# Altium schematic symbol library Diode.SchLib: 43 symbols
Pins are listed as number, name and electrical type; pins without a type are passive.

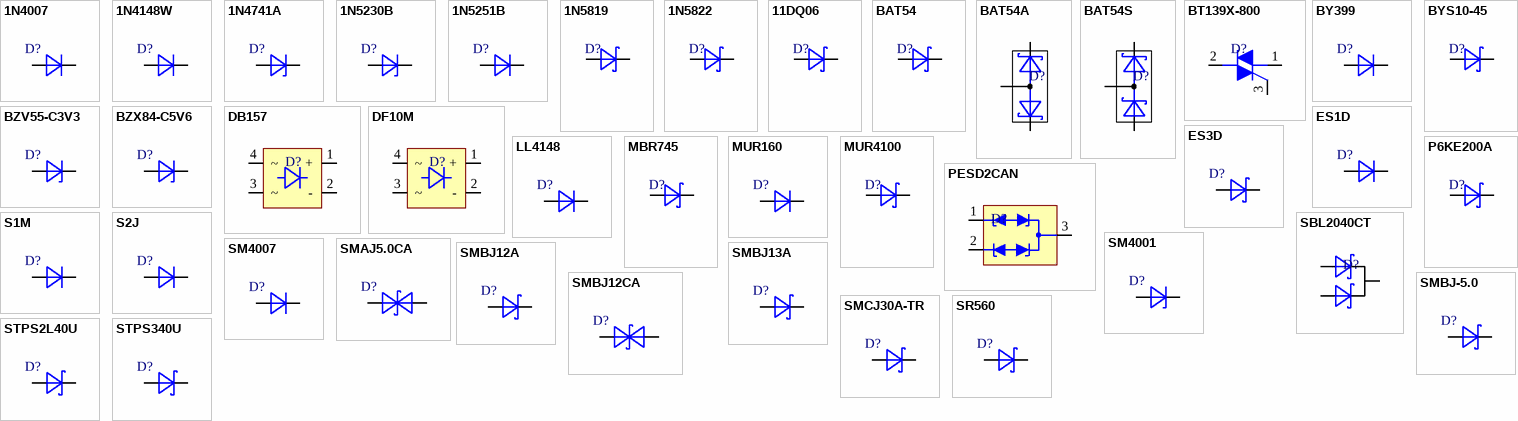
[diagram p0: symbols 1N4007 to STPS340U]

## 1N4007
designator D?
Diode
footprint DO-41 (Diode, Axial; Body 5.2 x 2.7 mm (LxDia. max), Lead Dia. 0.86 mm (max))
footprint DO-41_6mm (Diode, Axial; Body 5.2 x 2.7 mm (LxDia. max), Lead Dia. 0.86 mm (max))
footprint DO-41_Vertical
pins: 1 A, 2 C

## 1N4148W
designator D?
Diode
footprint SOD-123
footprint DO-35 (Diode)
pins: 1 A, 2 C

## 1N4741A
designator D?
Zener Diode
footprint DO-41 (Diode, Axial; Body 5.2 x 2.7 mm (LxDia. max), Lead Dia. 0.86 mm (max))
footprint DO-41_6mm (Diode, Axial; Body 5.2 x 2.7 mm (LxDia. max), Lead Dia. 0.86 mm (max))
footprint DO-41_Vertical
pins: 1 A, 2 C

## 1N5230B
designator D?
Zener Diode
footprint SOD80C
pins: 1 A, 2 C

## 1N5251B
designator D?
Diode
footprint DO-35 (Diode)
pins: 1 A, 2 C

## 1N5819
designator D?
Diode Schottky
footprint DO-41 (Diode, Axial; Body 5.2 x 2.7 mm (LxDia. max), Lead Dia. 0.86 mm (max))
footprint DO-41_6mm (Diode, Axial; Body 5.2 x 2.7 mm (LxDia. max), Lead Dia. 0.86 mm (max))
footprint DO-41_Vertical
pins: 1 A, 2 C

## 1N5822
designator D?
Diode Schottky
footprint DO-201
footprint DO-201_Vertical
pins: 1 A, 2 C

## 11DQ06
designator D?
Diode Schottky
footprint DO-41 (Diode, Axial; Body 5.2 x 2.7 mm (LxDia. max), Lead Dia. 0.86 mm (max))
footprint DO-41_6mm (Diode, Axial; Body 5.2 x 2.7 mm (LxDia. max), Lead Dia. 0.86 mm (max))
footprint DO-41_Vertical
pins: 1 A, 2 C

## BAT54
designator D?
Diode Schottky
footprint SOT-23_L (SOT23, 3-Leads, Body 2.9x1.3mm, Pitch 0.95mm, Lead Span 2.3mm, IPC High Density)
footprint SOT-23_M (SOT23, 3-Leads, Body 2.9x1.3mm, Pitch 0.95mm, Lead Span 2.3mm, IPC Low Density)
footprint SOT-23_N (SOT23, 3-Leads, Body 2.9x1.3mm, Pitch 0.95mm, Lead Span 2.3mm, IPC Medium Density)
pins: 1 A, 3 C

## BAT54A
designator D?
Diode Schottky
footprint SOT-23_d
pins: 1 C, 2 C, 3 CA

## BAT54S
designator D?
Diode Schottky
footprint SOT-23_d
pins: 1 A, 2 C, 3 CA

## BT139X-800
designator D?
Triacs
footprint TO-220A (TO, Thru-Hole, Vertical, Heatsink Mounted; 3 In-Line Leads; Pitch 2.54 mm)
footprint TO-220A_v (TO, Thru-Hole, Vertical, Heatsink Mounted; 3 In-Line Leads; Pitch 2.54 mm)
footprint TO-220A_VR (TO, Thru-Hole, Vertical, Heatsink Mounted; 3 In-Line Leads; Pitch 2.54 mm)
pins: 1 MT1, 2 MT2, 3 G

## BY399
designator D?
Diode fast
footprint DO-201
footprint DO-201_Vertical
pins: 1 A, 2 C

## BYS10-45
designator D?
Diode Schottky
footprint DO-214AA
footprint DO-214AC
pins: 1 A, 2 C

## BZV55-C3V3
designator D?
Zener Diode
footprint SOD80
footprint SOD80C
pins: 1 A, 2 C

## BZX84-C5V6
designator D?
Zener Diode
footprint SOT-23_d
pins: 1 A, 3 C

## DB157
designator D?
Diode Bridge
footprint DIP4 (6-Pin Plastic Dual In-Line Package (PDIP) Row Spacing 9 mm; Pitch 2.54 mm)
pins: 1 +, 2 -, 3 ~, 4 ~

## DF10M
designator D?
Diode Bridge
footprint DIP4 (6-Pin Plastic Dual In-Line Package (PDIP) Row Spacing 9 mm; Pitch 2.54 mm)
pins: 1 +, 2 -, 3 ~, 4 ~

## ES1D
designator D?
Diode
footprint SMA
pins: 1 A, 2 C

## ES3D
designator D?
Diode Ultrafast
footprint SMC
pins: 1 A, 2 C

## LL4148
designator D?
Diode
footprint SOD80
footprint SOD80C
pins: 1 A, 2 C

## MBR745
designator D?
Diode Schottky; Published: 8-Jun-2000; LatestRevisionDate: 17-Jul-2002; LatestRevisionNote: Re-released for DXP Platform.; DatasheetVersion: 1999; PackageVersion: Aug-1999; PackageReference: DO-41; Publisher: Altium Limited; PackageDescription: Diode, Axial; Body 5.2 x 2.7 mm (LxDia. max), Lead Dia. 0.86 mm (max); Code_JEDEC: DO-204-AL; ComponentLink1Description: Manufacturer Link; ComponentLink1URL: http://www.fairchildsemi.com/; ComponentLink2Description: Datasheet; ComponentLink2URL: http://www.fairchildsemi.com/ds/1N%2F1N4934.pdf
footprint TO-220AC (Diode)
pins: 1 A, 2 C

## MUR160
designator D?
Diode fast
footprint DO-41 (Diode, Axial; Body 5.2 x 2.7 mm (LxDia. max), Lead Dia. 0.86 mm (max))
footprint DO-41_6mm (Diode, Axial; Body 5.2 x 2.7 mm (LxDia. max), Lead Dia. 0.86 mm (max))
footprint DO-41_Vertical
pins: 1 A, 2 C

## MUR4100
designator D?
Diode Ultrafast
footprint DO-201
footprint DO-201_Vertical
pins: 1 A, 2 C

## P6KE200A
designator D?
Diode Schottky
footprint DO-15 (Diode)
footprint DO-15_Vertical (Diode)
pins: 1 A, 2 C

## PESD2CAN
designator D?
CAN bus ESD protection diode
footprint SOT-23_d
pins: 1 "1", 2 "2", 3 "2"

## S1M
designator D?
Diode
footprint SMA
pins: 1 A, 2 C

## S2J
designator D?
Diode 2А
footprint SMB
pins: 1 A, 2 C

## SBL2040CT
designator D?
Diode Schottky, Dual rectifier
footprint TO-220A_VR (TO, Thru-Hole, Vertical, Heatsink Mounted; 3 In-Line Leads; Pitch 2.54 mm)
pins: 1 A, 2 C, 3 A

## SM4001
designator D?
Diode; Datasheet: http://www.terraelectronica.ru/pdf/DC/SM4007.pdf
footprint MELF (Metal Electrode Face (MELF) Diode; Body 5 x 2.5 mm (LxDia))
footprint DO-41 (Diode, Axial; Body 5.2 x 2.7 mm (LxDia. max), Lead Dia. 0.86 mm (max))
footprint DO-214AA
footprint DO-214AC
pins: 1 A, 2 C

## SM4007
designator D?
Diode
footprint MELF (Metal Electrode Face (MELF) Diode; Body 5 x 2.5 mm (LxDia))
pins: 1 A, 2 C

## SMAJ5.0CA
designator D?
Supressor
footprint SMA
pins: 1 A, 2 C

## SMBJ12A
designator D?
Supressor
footprint MELF (Metal Electrode Face (MELF) Diode; Body 5 x 2.5 mm (LxDia))
footprint DO-214AA
footprint DO-214AC
pins: 1 A, 2 C

## SMBJ12CA
designator D?
Supressor
footprint SMB
pins: 1 A, 2 C

## SMBJ13A
designator D?
Supressor
footprint SMB
pins: 1 A, 2 C

## SMBJ-5.0
designator D?
Supressor; Разработал: Сергеев
footprint MELF (Metal Electrode Face (MELF) Diode; Body 5 x 2.5 mm (LxDia))
footprint DO-214AA
footprint DO-214AC
pins: 1 A, 2 C

## SMCJ30A-TR
designator D?
Transil
footprint DO-214AC
pins: 1 A, 2 C

## SR560
designator D?
Diode Schottky
footprint MELF (Metal Electrode Face (MELF) Diode; Body 5 x 2.5 mm (LxDia))
footprint DO-41 (Diode, Axial; Body 5.2 x 2.7 mm (LxDia. max), Lead Dia. 0.86 mm (max))
footprint DO-214AA
footprint DO-214AC
pins: 1 A, 2 C

## STPS2L40U
designator D?
Diode Schottky
footprint DO-214AA
footprint DO-214AC
pins: 1 A, 2 C

## STPS340U
designator D?
Diode Schottky
footprint SMB
pins: 1 A, 2 C

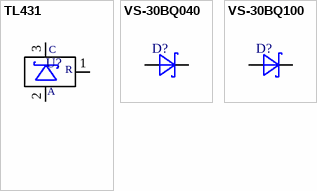
[diagram p1: symbols TL431 to VS-30BQ100]

## TL431
designator U?
Adjustable Precision Shunt Regulator
footprint TO-92
pins: 1 R (power), 2 A (power), 3 C (power)

## VS-30BQ040
designator D?
Diode Schottky
footprint SMC
pins: 1 A, 2 C

## VS-30BQ100
designator D?
Diode Schottky
footprint SMC
pins: 1 A, 2 C